# EAGLE library part EP4CE30F23C6N (library EP4CE30F23C6N)
FPGA - Field Programmable Gate Array FPGA - Cyclone IV E 1803 LABs 328 IOs Source: Datasheet
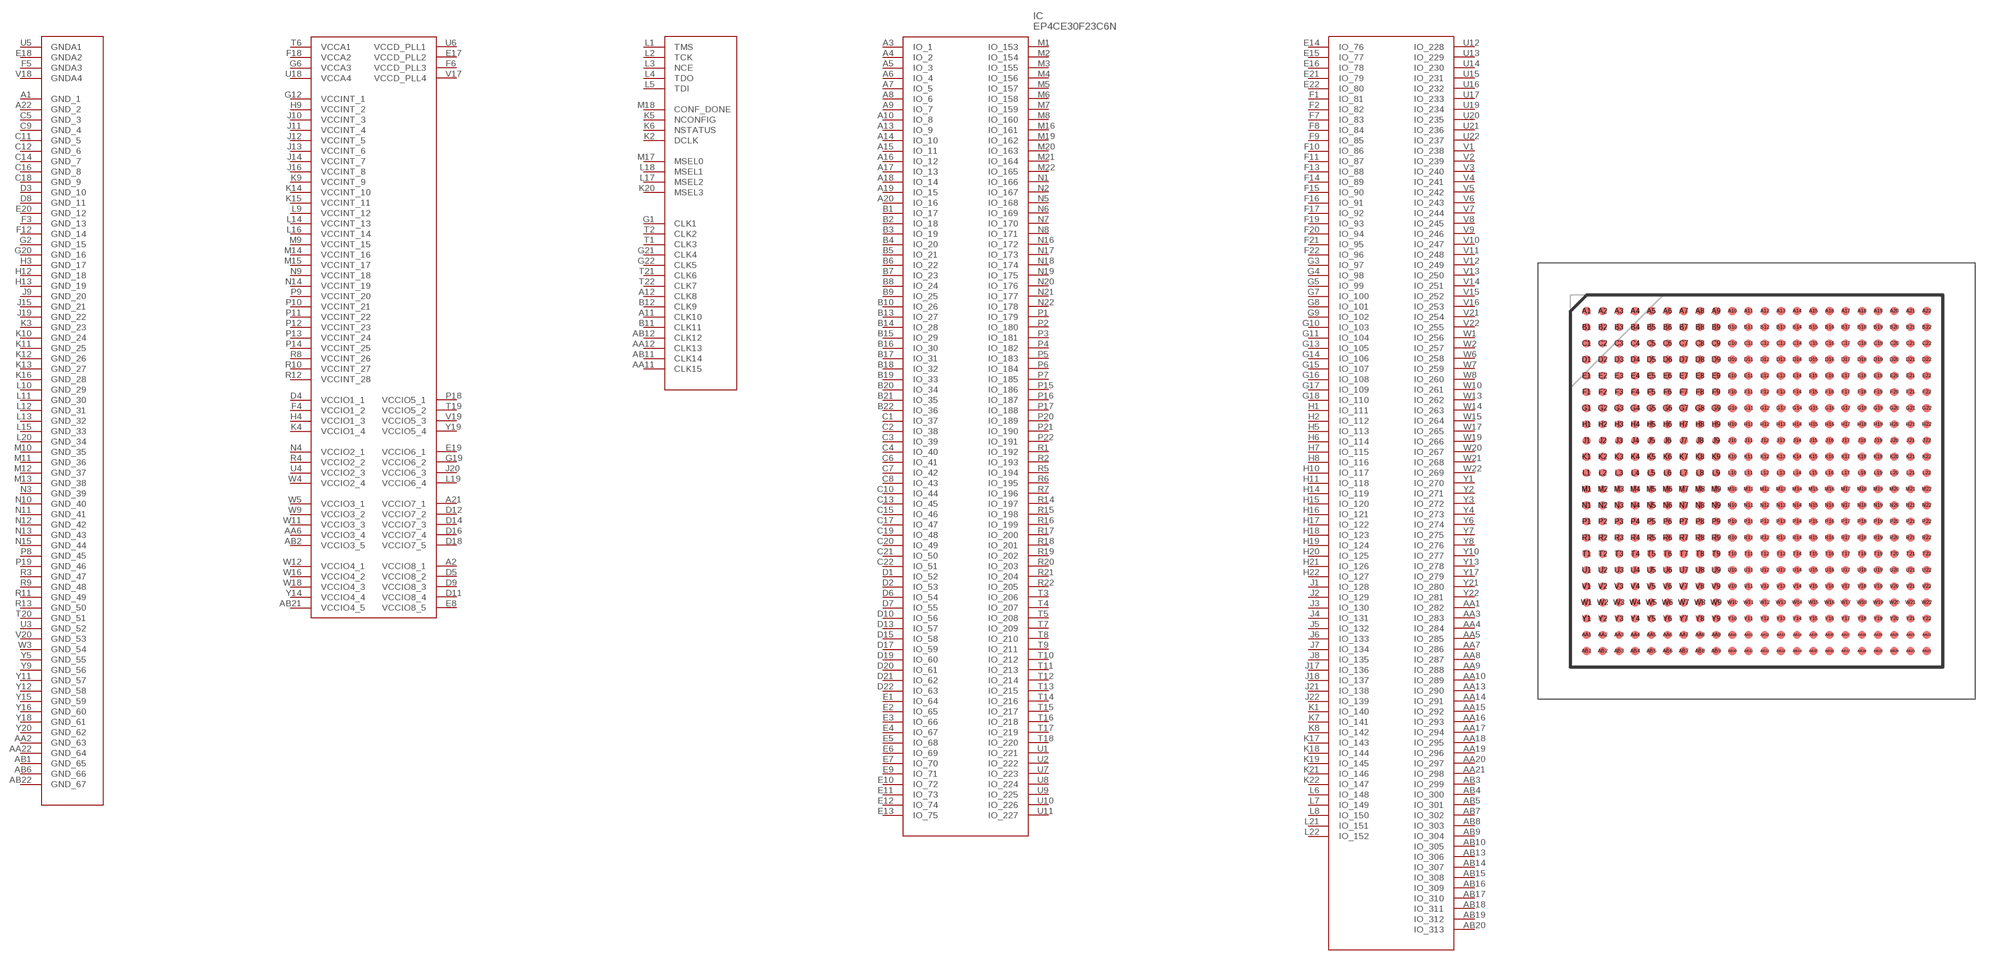
[diagram p0: symbol with the pads of BGA484C100P22X22_2300X2300X240; footprint BGA484C100P22X22_2300X2300X240]

Designator prefix IC

## EP4CE30F23C6N (DESCRIPTION: FPGA - Field Programmable Gate Array FPGA - Cyclone IV E 1803 LABs 328 IOs; HEIGHT: 2.4mm; MANUFACTURER_NAME: Intel; MANUFACTURER_PART_NUMBER: EP4CE30F23C6N; MOUSER_PART_NUMBER: 989-EP4CE30F23C6N; MOUSER_PRICE-STOCK: https://www.mouser.co.uk/ProductDetail/Intel-Altera/EP4CE30F23C6N?qs=jblrfmjbeiFbWx2dd1mvzw%3D%3D)  [BGA484C100P22X22_2300X2300X240]
A1  GND_1
A2  VCCIO8_1
A3  IO_1
A4  IO_2
A5  IO_3
A6  IO_4
A7  IO_5
A8  IO_6
A9  IO_7
A10  IO_8
A11  CLK10
A12  CLK8
A13  IO_9
A14  IO_10
A15  IO_11
A16  IO_12
A17  IO_13
A18  IO_14
A19  IO_15
A20  IO_16
A21  VCCIO7_1
A22  GND_2
AA1  IO_282
AA2  GND_63
AA3  IO_283
AA4  IO_284
AA5  IO_285
AA6  VCCIO3_4
AA7  IO_286
AA8  IO_287
AA9  IO_288
AA10  IO_289
AA11  CLK15
AA12  CLK13
AA13  IO_290
AA14  IO_291
AA15  IO_292
AA16  IO_293
AA17  IO_294
AA18  IO_295
AA19  IO_296
AA20  IO_297
AA21  IO_298
AA22  GND_64
AB1  GND_65
AB2  VCCIO3_5
AB3  IO_299
AB4  IO_300
AB5  IO_301
AB6  GND_66
AB7  IO_302
AB8  IO_303
AB9  IO_304
AB10  IO_305
AB11  CLK14
AB12  CLK12
AB13  IO_306
AB14  IO_307
AB15  IO_308
AB16  IO_309
AB17  IO_310
AB18  IO_311
AB19  IO_312
AB20  IO_313
AB21  VCCIO4_5
AB22  GND_67
B1  IO_17
B2  IO_18
B3  IO_19
B4  IO_20
B5  IO_21
B6  IO_22
B7  IO_23
B8  IO_24
B9  IO_25
B10  IO_26
B11  CLK11
B12  CLK9
B13  IO_27
B14  IO_28
B15  IO_29
B16  IO_30
B17  IO_31
B18  IO_32
B19  IO_33
B20  IO_34
B21  IO_35
B22  IO_36
C1  IO_37
C2  IO_38
C3  IO_39
C4  IO_40
C5  GND_3
C6  IO_41
C7  IO_42
C8  IO_43
C9  GND_4
C10  IO_44
C11  GND_5
C12  GND_6
C13  IO_45
C14  GND_7
C15  IO_46
C16  GND_8
C17  IO_47
C18  GND_9
C19  IO_48
C20  IO_49
C21  IO_50
C22  IO_51
D1  IO_52
D2  IO_53
D3  GND_10
D4  VCCIO1_1
D5  VCCIO8_2
D6  IO_54
D7  IO_55
D8  GND_11
D9  VCCIO8_3
D10  IO_56
D11  VCCIO8_4
D12  VCCIO7_2
D13  IO_57
D14  VCCIO7_3
D15  IO_58
D16  VCCIO7_4
D17  IO_59
D18  VCCIO7_5
D19  IO_60
D20  IO_61
D21  IO_62
D22  IO_63
E1  IO_64
E2  IO_65
E3  IO_66
E4  IO_67
E5  IO_68
E6  IO_69
E7  IO_70
E8  VCCIO8_5
E9  IO_71
E10  IO_72
E11  IO_73
E12  IO_74
E13  IO_75
E14  IO_76
E15  IO_77
E16  IO_78
E17  VCCD_PLL2
E18  GNDA2
E19  VCCIO6_1
E20  GND_12
E21  IO_79
E22  IO_80
F1  IO_81
F2  IO_82
F3  GND_13
F4  VCCIO1_2
F5  GNDA3
F6  VCCD_PLL3
F7  IO_83
F8  IO_84
F9  IO_85
F10  IO_86
F11  IO_87
F12  GND_14
F13  IO_88
F14  IO_89
F15  IO_90
F16  IO_91
F17  IO_92
F18  VCCA2
F19  IO_93
F20  IO_94
F21  IO_95
F22  IO_96
G1  CLK1
G2  GND_15
G3  IO_97
G4  IO_98
G5  IO_99
G6  VCCA3
G7  IO_100
G8  IO_101
G9  IO_102
G10  IO_103
G11  IO_104
G12  VCCINT_1
G13  IO_105
G14  IO_106
G15  IO_107
G16  IO_108
G17  IO_109
G18  IO_110
G19  VCCIO6_2
G20  GND_16
G21  CLK4
G22  CLK5
H1  IO_111
H2  IO_112
H3  GND_17
H4  VCCIO1_3
H5  IO_113
H6  IO_114
H7  IO_115
H8  IO_116
H9  VCCINT_2
H10  IO_117
H11  IO_118
H12  GND_18
H13  GND_19
H14  IO_119
H15  IO_120
H16  IO_121
H17  IO_122
H18  IO_123
H19  IO_124
H20  IO_125
H21  IO_126
H22  IO_127
J1  IO_128
J2  IO_129
J3  IO_130
J4  IO_131
J5  IO_132
J6  IO_133
J7  IO_134
J8  IO_135
J9  GND_20
J10  VCCINT_3
J11  VCCINT_4
J12  VCCINT_5
J13  VCCINT_6
J14  VCCINT_7
J15  GND_21
J16  VCCINT_8
J17  IO_136
J18  IO_137
J19  GND_22
J20  VCCIO6_3
J21  IO_138
J22  IO_139
K1  IO_140
K2  DCLK
K3  GND_23
K4  VCCIO1_4
K5  NCONFIG
K6  NSTATUS
K7  IO_141
K8  IO_142
K9  VCCINT_9
K10  GND_24
K11  GND_25
K12  GND_26
K13  GND_27
K14  VCCINT_10
K15  VCCINT_11
K16  GND_28
K17  IO_143
K18  IO_144
K19  IO_145
K20  MSEL3
K21  IO_146
K22  IO_147
L1  TMS
L2  TCK
L3  NCE
L4  TDO
L5  TDI
L6  IO_148
L7  IO_149
L8  IO_150
L9  VCCINT_12
L10  GND_29
L11  GND_30
L12  GND_31
L13  GND_32
L14  VCCINT_13
L15  GND_33
L16  VCCINT_14
L17  MSEL2
L18  MSEL1
L19  VCCIO6_4
L20  GND_34
L21  IO_151
L22  IO_152
M1  IO_153
M2  IO_154
M3  IO_155
M4  IO_156
M5  IO_157
M6  IO_158
M7  IO_159
M8  IO_160
M9  VCCINT_15
M10  GND_35
M11  GND_36
M12  GND_37
M13  GND_38
M14  VCCINT_16
M15  VCCINT_17
M16  IO_161
M17  MSEL0
M18  CONF_DONE
M19  IO_162
M20  IO_163
M21  IO_164
M22  IO_165
N1  IO_166
N2  IO_167
N3  GND_39
N4  VCCIO2_1
N5  IO_168
N6  IO_169
N7  IO_170
N8  IO_171
N9  VCCINT_18
N10  GND_40
N11  GND_41
N12  GND_42
N13  GND_43
N14  VCCINT_19
N15  GND_44
N16  IO_172
N17  IO_173
N18  IO_174
N19  IO_175
N20  IO_176
N21  IO_177
N22  IO_178
P1  IO_179
P2  IO_180
P3  IO_181
P4  IO_182
P5  IO_183
P6  IO_184
P7  IO_185
P8  GND_45
P9  VCCINT_20
P10  VCCINT_21
P11  VCCINT_22
P12  VCCINT_23
P13  VCCINT_24
P14  VCCINT_25
P15  IO_186
P16  IO_187
P17  IO_188
P18  VCCIO5_1
P19  GND_46
P20  IO_189
P21  IO_190
P22  IO_191
R1  IO_192
R2  IO_193
R3  GND_47
R4  VCCIO2_2
R5  IO_194
R6  IO_195
R7  IO_196
R8  VCCINT_26
R9  GND_48
R10  VCCINT_27
R11  GND_49
R12  VCCINT_28
R13  GND_50
R14  IO_197
R15  IO_198
R16  IO_199
R17  IO_200
R18  IO_201
R19  IO_202
R20  IO_203
R21  IO_204
R22  IO_205
T1  CLK3
T2  CLK2
T3  IO_206
T4  IO_207
T5  IO_208
T6  VCCA1
T7  IO_209
T8  IO_210
T9  IO_211
T10  IO_212
T11  IO_213
T12  IO_214
T13  IO_215
T14  IO_216
T15  IO_217
T16  IO_218
T17  IO_219
T18  IO_220
T19  VCCIO5_2
T20  GND_51
T21  CLK6
T22  CLK7
U1  IO_221
U2  IO_222
U3  GND_52
U4  VCCIO2_3
U5  GNDA1
U6  VCCD_PLL1
U7  IO_223
U8  IO_224
U9  IO_225
U10  IO_226
U11  IO_227
U12  IO_228
U13  IO_229
U14  IO_230
U15  IO_231
U16  IO_232
U17  IO_233
U18  VCCA4
U19  IO_234
U20  IO_235
U21  IO_236
U22  IO_237
V1  IO_238
V2  IO_239
V3  IO_240
V4  IO_241
V5  IO_242
V6  IO_243
V7  IO_244
V8  IO_245
V9  IO_246
V10  IO_247
V11  IO_248
V12  IO_249
V13  IO_250
V14  IO_251
V15  IO_252
V16  IO_253
V17  VCCD_PLL4
V18  GNDA4
V19  VCCIO5_3
V20  GND_53
V21  IO_254
V22  IO_255
W1  IO_256
W2  IO_257
W3  GND_54
W4  VCCIO2_4
W5  VCCIO3_1
W6  IO_258
W7  IO_259
W8  IO_260
W9  VCCIO3_2
W10  IO_261
W11  VCCIO3_3
W12  VCCIO4_1
W13  IO_262
W14  IO_263
W15  IO_264
W16  VCCIO4_2
W17  IO_265
W18  VCCIO4_3
W19  IO_266
W20  IO_267
W21  IO_268
W22  IO_269
Y1  IO_270
Y2  IO_271
Y3  IO_272
Y4  IO_273
Y5  GND_55
Y6  IO_274
Y7  IO_275
Y8  IO_276
Y9  GND_56
Y10  IO_277
Y11  GND_57
Y12  GND_58
Y13  IO_278
Y14  VCCIO4_4
Y15  GND_59
Y16  GND_60
Y17  IO_279
Y18  GND_61
Y19  VCCIO5_4
Y20  GND_62
Y21  IO_280
Y22  IO_281

## Footprint BGA484C100P22X22_2300X2300X240 (pad centres in mm)
484-Pin FineLine Ball-Grid Array (FBGA) - Wire Bond - A:2.40
smd 0.5 x 0.5: A1 -10.5,10.5; A2 -9.5,10.5; A3 -8.5,10.5; A4 -7.5,10.5; A5 -6.5,10.5; A6 -5.5,10.5; A7 -4.5,10.5; A8 -3.5,10.5; A9 -2.5,10.5; A10 -1.5,10.5; A11 -0.5,10.5; A12 0.5,10.5; A13 1.5,10.5; A14 2.5,10.5; A15 3.5,10.5; A16 4.5,10.5; A17 5.5,10.5; A18 6.5,10.5; A19 7.5,10.5; A20 8.5,10.5; A21 9.5,10.5; A22 10.5,10.5; AA1 -10.5,-9.5; AA2 -9.5,-9.5; AA3 -8.5,-9.5; AA4 -7.5,-9.5; AA5 -6.5,-9.5; AA6 -5.5,-9.5; AA7 -4.5,-9.5; AA8 -3.5,-9.5; AA9 -2.5,-9.5; AA10 -1.5,-9.5; AA11 -0.5,-9.5; AA12 0.5,-9.5; AA13 1.5,-9.5; AA14 2.5,-9.5; AA15 3.5,-9.5; AA16 4.5,-9.5; AA17 5.5,-9.5; AA18 6.5,-9.5; AA19 7.5,-9.5; AA20 8.5,-9.5; AA21 9.5,-9.5; AA22 10.5,-9.5; AB1 -10.5,-10.5; AB2 -9.5,-10.5; AB3 -8.5,-10.5; AB4 -7.5,-10.5; AB5 -6.5,-10.5; AB6 -5.5,-10.5; AB7 -4.5,-10.5; AB8 -3.5,-10.5; AB9 -2.5,-10.5; AB10 -1.5,-10.5; AB11 -0.5,-10.5; AB12 0.5,-10.5; AB13 1.5,-10.5; AB14 2.5,-10.5; AB15 3.5,-10.5; AB16 4.5,-10.5; AB17 5.5,-10.5; AB18 6.5,-10.5; AB19 7.5,-10.5; AB20 8.5,-10.5; AB21 9.5,-10.5; AB22 10.5,-10.5; B1 -10.5,9.5; B2 -9.5,9.5; B3 -8.5,9.5; B4 -7.5,9.5; B5 -6.5,9.5; B6 -5.5,9.5; B7 -4.5,9.5; B8 -3.5,9.5; B9 -2.5,9.5; B10 -1.5,9.5; B11 -0.5,9.5; B12 0.5,9.5; B13 1.5,9.5; B14 2.5,9.5; B15 3.5,9.5; B16 4.5,9.5; B17 5.5,9.5; B18 6.5,9.5; B19 7.5,9.5; B20 8.5,9.5; B21 9.5,9.5; B22 10.5,9.5; C1 -10.5,8.5; C2 -9.5,8.5; C3 -8.5,8.5; C4 -7.5,8.5; C5 -6.5,8.5; C6 -5.5,8.5; C7 -4.5,8.5; C8 -3.5,8.5; C9 -2.5,8.5; C10 -1.5,8.5; C11 -0.5,8.5; C12 0.5,8.5; C13 1.5,8.5; C14 2.5,8.5; C15 3.5,8.5; C16 4.5,8.5; C17 5.5,8.5; C18 6.5,8.5; C19 7.5,8.5; C20 8.5,8.5; C21 9.5,8.5; C22 10.5,8.5; D1 -10.5,7.5; D2 -9.5,7.5; D3 -8.5,7.5; D4 -7.5,7.5; D5 -6.5,7.5; D6 -5.5,7.5; D7 -4.5,7.5; D8 -3.5,7.5; D9 -2.5,7.5; D10 -1.5,7.5; D11 -0.5,7.5; D12 0.5,7.5; D13 1.5,7.5; D14 2.5,7.5; D15 3.5,7.5; D16 4.5,7.5; D17 5.5,7.5; D18 6.5,7.5; D19 7.5,7.5; D20 8.5,7.5; D21 9.5,7.5; D22 10.5,7.5; E1 -10.5,6.5; E2 -9.5,6.5; E3 -8.5,6.5; E4 -7.5,6.5; E5 -6.5,6.5; E6 -5.5,6.5; E7 -4.5,6.5; E8 -3.5,6.5; E9 -2.5,6.5; E10 -1.5,6.5; E11 -0.5,6.5; E12 0.5,6.5; E13 1.5,6.5; E14 2.5,6.5; E15 3.5,6.5; E16 4.5,6.5; E17 5.5,6.5; E18 6.5,6.5; E19 7.5,6.5; E20 8.5,6.5; E21 9.5,6.5; E22 10.5,6.5; F1 -10.5,5.5; F2 -9.5,5.5; F3 -8.5,5.5; F4 -7.5,5.5; F5 -6.5,5.5; F6 -5.5,5.5; F7 -4.5,5.5; F8 -3.5,5.5; F9 -2.5,5.5; F10 -1.5,5.5; F11 -0.5,5.5; F12 0.5,5.5; F13 1.5,5.5; F14 2.5,5.5; F15 3.5,5.5; F16 4.5,5.5; F17 5.5,5.5; F18 6.5,5.5; F19 7.5,5.5; F20 8.5,5.5; F21 9.5,5.5; F22 10.5,5.5; G1 -10.5,4.5; G2 -9.5,4.5; G3 -8.5,4.5; G4 -7.5,4.5; G5 -6.5,4.5; G6 -5.5,4.5; G7 -4.5,4.5; G8 -3.5,4.5; G9 -2.5,4.5; G10 -1.5,4.5; G11 -0.5,4.5; G12 0.5,4.5; G13 1.5,4.5; G14 2.5,4.5; G15 3.5,4.5; G16 4.5,4.5; G17 5.5,4.5; G18 6.5,4.5; G19 7.5,4.5; G20 8.5,4.5; G21 9.5,4.5; G22 10.5,4.5; H1 -10.5,3.5; H2 -9.5,3.5; H3 -8.5,3.5; H4 -7.5,3.5; H5 -6.5,3.5; H6 -5.5,3.5; H7 -4.5,3.5; H8 -3.5,3.5; H9 -2.5,3.5; H10 -1.5,3.5; H11 -0.5,3.5; H12 0.5,3.5; H13 1.5,3.5; H14 2.5,3.5; H15 3.5,3.5; H16 4.5,3.5; H17 5.5,3.5; H18 6.5,3.5; H19 7.5,3.5; H20 8.5,3.5; H21 9.5,3.5; H22 10.5,3.5; J1 -10.5,2.5; J2 -9.5,2.5; J3 -8.5,2.5; J4 -7.5,2.5; J5 -6.5,2.5; J6 -5.5,2.5; J7 -4.5,2.5; J8 -3.5,2.5; J9 -2.5,2.5; J10 -1.5,2.5; J11 -0.5,2.5; J12 0.5,2.5; J13 1.5,2.5; J14 2.5,2.5; J15 3.5,2.5; J16 4.5,2.5; J17 5.5,2.5; J18 6.5,2.5; J19 7.5,2.5; J20 8.5,2.5; J21 9.5,2.5; J22 10.5,2.5; K1 -10.5,1.5; K2 -9.5,1.5; K3 -8.5,1.5; K4 -7.5,1.5; K5 -6.5,1.5; K6 -5.5,1.5; K7 -4.5,1.5; K8 -3.5,1.5; K9 -2.5,1.5; K10 -1.5,1.5; K11 -0.5,1.5; K12 0.5,1.5; K13 1.5,1.5; K14 2.5,1.5; K15 3.5,1.5; K16 4.5,1.5; K17 5.5,1.5; K18 6.5,1.5; K19 7.5,1.5; K20 8.5,1.5; K21 9.5,1.5; K22 10.5,1.5; L1 -10.5,0.5; L2 -9.5,0.5; L3 -8.5,0.5; L4 -7.5,0.5; L5 -6.5,0.5; L6 -5.5,0.5; L7 -4.5,0.5; L8 -3.5,0.5; L9 -2.5,0.5; L10 -1.5,0.5; L11 -0.5,0.5; L12 0.5,0.5; L13 1.5,0.5; L14 2.5,0.5; L15 3.5,0.5; L16 4.5,0.5; L17 5.5,0.5; L18 6.5,0.5; L19 7.5,0.5; L20 8.5,0.5; L21 9.5,0.5; L22 10.5,0.5; M1 -10.5,-0.5; M2 -9.5,-0.5; M3 -8.5,-0.5; M4 -7.5,-0.5; M5 -6.5,-0.5; M6 -5.5,-0.5; M7 -4.5,-0.5; M8 -3.5,-0.5; M9 -2.5,-0.5; M10 -1.5,-0.5; M11 -0.5,-0.5; M12 0.5,-0.5; M13 1.5,-0.5; M14 2.5,-0.5; M15 3.5,-0.5; M16 4.5,-0.5; M17 5.5,-0.5; M18 6.5,-0.5; M19 7.5,-0.5; M20 8.5,-0.5; M21 9.5,-0.5; M22 10.5,-0.5; N1 -10.5,-1.5; N2 -9.5,-1.5; N3 -8.5,-1.5; N4 -7.5,-1.5; N5 -6.5,-1.5; N6 -5.5,-1.5; N7 -4.5,-1.5; N8 -3.5,-1.5; N9 -2.5,-1.5; N10 -1.5,-1.5; N11 -0.5,-1.5; N12 0.5,-1.5; N13 1.5,-1.5; N14 2.5,-1.5; N15 3.5,-1.5; N16 4.5,-1.5; N17 5.5,-1.5; N18 6.5,-1.5; N19 7.5,-1.5; N20 8.5,-1.5; N21 9.5,-1.5; N22 10.5,-1.5; P1 -10.5,-2.5; P2 -9.5,-2.5; P3 -8.5,-2.5; P4 -7.5,-2.5; P5 -6.5,-2.5; P6 -5.5,-2.5; P7 -4.5,-2.5; P8 -3.5,-2.5; P9 -2.5,-2.5; P10 -1.5,-2.5; P11 -0.5,-2.5; P12 0.5,-2.5; P13 1.5,-2.5; P14 2.5,-2.5; P15 3.5,-2.5; P16 4.5,-2.5; P17 5.5,-2.5; P18 6.5,-2.5; P19 7.5,-2.5; P20 8.5,-2.5; P21 9.5,-2.5; P22 10.5,-2.5; R1 -10.5,-3.5; R2 -9.5,-3.5; R3 -8.5,-3.5; R4 -7.5,-3.5; R5 -6.5,-3.5; R6 -5.5,-3.5; R7 -4.5,-3.5; R8 -3.5,-3.5; R9 -2.5,-3.5; R10 -1.5,-3.5; R11 -0.5,-3.5; R12 0.5,-3.5; R13 1.5,-3.5; R14 2.5,-3.5; R15 3.5,-3.5; R16 4.5,-3.5; R17 5.5,-3.5; R18 6.5,-3.5; R19 7.5,-3.5; R20 8.5,-3.5; R21 9.5,-3.5; R22 10.5,-3.5; T1 -10.5,-4.5; T2 -9.5,-4.5; T3 -8.5,-4.5; T4 -7.5,-4.5; T5 -6.5,-4.5; T6 -5.5,-4.5; T7 -4.5,-4.5; T8 -3.5,-4.5; T9 -2.5,-4.5; T10 -1.5,-4.5; T11 -0.5,-4.5; T12 0.5,-4.5; T13 1.5,-4.5; T14 2.5,-4.5; T15 3.5,-4.5; T16 4.5,-4.5; T17 5.5,-4.5; T18 6.5,-4.5; T19 7.5,-4.5; T20 8.5,-4.5; T21 9.5,-4.5; T22 10.5,-4.5; U1 -10.5,-5.5; U2 -9.5,-5.5; U3 -8.5,-5.5; U4 -7.5,-5.5; U5 -6.5,-5.5; U6 -5.5,-5.5; U7 -4.5,-5.5; U8 -3.5,-5.5; U9 -2.5,-5.5; U10 -1.5,-5.5; U11 -0.5,-5.5; U12 0.5,-5.5; U13 1.5,-5.5; U14 2.5,-5.5; U15 3.5,-5.5; U16 4.5,-5.5; U17 5.5,-5.5; U18 6.5,-5.5; U19 7.5,-5.5; U20 8.5,-5.5; U21 9.5,-5.5; U22 10.5,-5.5; V1 -10.5,-6.5; V2 -9.5,-6.5; V3 -8.5,-6.5; V4 -7.5,-6.5; V5 -6.5,-6.5; V6 -5.5,-6.5; V7 -4.5,-6.5; V8 -3.5,-6.5; V9 -2.5,-6.5; V10 -1.5,-6.5; V11 -0.5,-6.5; V12 0.5,-6.5; V13 1.5,-6.5; V14 2.5,-6.5; V15 3.5,-6.5; V16 4.5,-6.5; V17 5.5,-6.5; V18 6.5,-6.5; V19 7.5,-6.5; V20 8.5,-6.5; V21 9.5,-6.5; V22 10.5,-6.5; W1 -10.5,-7.5; W2 -9.5,-7.5; W3 -8.5,-7.5; W4 -7.5,-7.5; W5 -6.5,-7.5; W6 -5.5,-7.5; W7 -4.5,-7.5; W8 -3.5,-7.5; W9 -2.5,-7.5; W10 -1.5,-7.5; W11 -0.5,-7.5; W12 0.5,-7.5; W13 1.5,-7.5; W14 2.5,-7.5; W15 3.5,-7.5; W16 4.5,-7.5; W17 5.5,-7.5; W18 6.5,-7.5; W19 7.5,-7.5; W20 8.5,-7.5; W21 9.5,-7.5; W22 10.5,-7.5; Y1 -10.5,-8.5; Y2 -9.5,-8.5; Y3 -8.5,-8.5; Y4 -7.5,-8.5; Y5 -6.5,-8.5; Y6 -5.5,-8.5; Y7 -4.5,-8.5; Y8 -3.5,-8.5; Y9 -2.5,-8.5; Y10 -1.5,-8.5; Y11 -0.5,-8.5; Y12 0.5,-8.5; Y13 1.5,-8.5; Y14 2.5,-8.5; Y15 3.5,-8.5; Y16 4.5,-8.5; Y17 5.5,-8.5; Y18 6.5,-8.5; Y19 7.5,-8.5; Y20 8.5,-8.5; Y21 9.5,-8.5; Y22 10.5,-8.5